# Altium schematic symbol library Schlib1.SchLib: 8 symbols
Pins are listed as number, name and electrical type; pins without a type are passive.

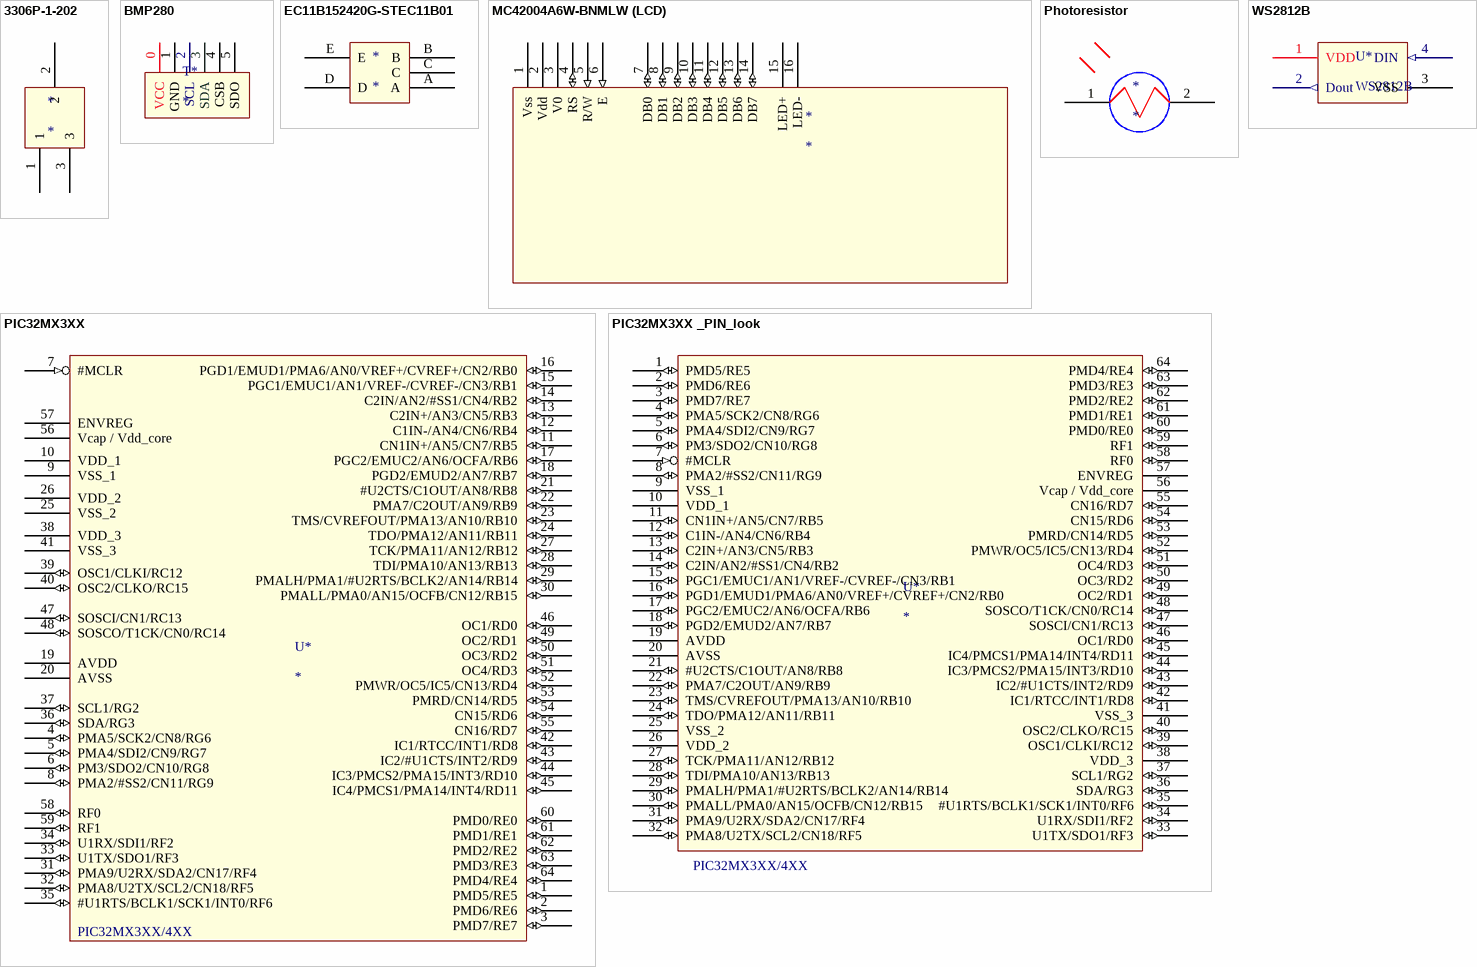
[diagram p0: symbols 3306P-1-202 to WS2812B]

## 3306P-1-202
designator *
footprint 3306P-1-202
pins: 1, 2, 3

## BMP280
designator T*
I2C thermometer
pins: 0 VCC (power) "5V", 1 GND (power) "masse", 2 SCL (power) "Clock", 3 SDA (power) "Data", 4 CSB (power) "Select Mode", 5 SDO (power) "Adress bit 0"

## EC11B152420G-STEC11B01
designator *
footprint EC11B152420G-STEC11B01
pins: A, B, C, D, E

## MC42004A6W-BNMLW (LCD)
designator *
footprint PCBComponent_1
pins: 1 Vss (power) "GND", 2 Vdd (power) "5v", 3 V0 "Contrast Adjust", 4 RS (io) "Register Select Signal", 5 R/W (in) "GND", 6 E (in) "Enable Signal", 7 DB0 (io) "Data bus pin 0", 8 DB1 (io) "Data bus pin 1", 9 DB2 (io) "Data bus pin 2", 10 DB3 (io) "Data bus pin 3", 11 DB4 (io) "Data bus pin 4", 12 DB5 (io) "Data bus pin 5", 13 DB6 (io) "Data bus pin 6", 14 DB7 (io) "Data bus pin 7", 15 LED+ (power) "5v", 16 LED- (power) "GND"

## Photoresistor
designator *
pins: 1, 2

## PIC32MX3XX
designator U*
pins: 1 PMD5/RE5 (io), 2 PMD6/RE6 (io), 3 PMD7/RE7 (io), 4 PMA5/SCK2/CN8/RG6 (io), 5 PMA4/SDI2/CN9/RG7 (io), 6 PM3/SDO2/CN10/RG8 (io), 7 #MCLR (in) "Reset", 8 PMA2/#SS2/CN11/RG9 (io), 9 VSS_1 (power), 10 VDD_1 (power), 11 CN1IN+/AN5/CN7/RB5 (io), 12 C1IN-/AN4/CN6/RB4 (io), 13 C2IN+/AN3/CN5/RB3 (io), 14 C2IN/AN2/#SS1/CN4/RB2 (io), 15 PGC1/EMUC1/AN1/VREF-/CVREF-/CN3/RB1 (io), 16 PGD1/EMUD1/PMA6/AN0/VREF+/CVREF+/CN2/RB0 (io), 17 PGC2/EMUC2/AN6/OCFA/RB6 (io), 18 PGD2/EMUD2/AN7/RB7 (io), 19 AVDD (power) "Analog 3.3v", 20 AVSS (power) "Analog GND", 21 #U2CTS/C1OUT/AN8/RB8 (io), 22 PMA7/C2OUT/AN9/RB9 (io), 23 TMS/CVREFOUT/PMA13/AN10/RB10 (io), 24 TDO/PMA12/AN11/RB11 (io), 25 VSS_2 (power), 26 VDD_2 (power), 27 TCK/PMA11/AN12/RB12 (io), 28 TDI/PMA10/AN13/RB13 (io), 29 PMALH/PMA1/#U2RTS/BCLK2/AN14/RB14 (io), 30 PMALL/PMA0/AN15/OCFB/CN12/RB15 (io), 31 PMA9/U2RX/SDA2/CN17/RF4 (io), 32 PMA8/U2TX/SCL2/CN18/RF5 (io), 33 U1TX/SDO1/RF3 (io), 34 U1RX/SDI1/RF2 (io), 35 #U1RTS/BCLK1/SCK1/INT0/RF6 (io), 36 SDA/RG3 (io), 37 SCL1/RG2 (io), 38 VDD_3, 39 OSC1/CLKI/RC12 (io) "Q : 8MHz + C : 22pF", 40 OSC2/CLKO/RC15 (io) "see pin 39", 41 VSS_3, 42 IC1/RTCC/INT1/RD8 (io), 43 IC2/#U1CTS/INT2/RD9 (io), 44 IC3/PMCS2/PMA15/INT3/RD10 (io), 45 IC4/PMCS1/PMA14/INT4/RD11 (io), 46 OC1/RD0 (io), 47 SOSCI/CN1/RC13 (io) "Q : 32768/12pF C : 27pF", 48 SOSCO/T1CK/CN0/RC14 (io) "see pin 47", 49 OC2/RD1 (io), 50 OC3/RD2 (io), 51 OC4/RD3 (io), 52 PMWR/OC5/IC5/CN13/RD4 (io), 53 PMRD/CN14/RD5 (io), 54 CN15/RD6 (io), 55 CN16/RD7 (io), 56 Vcap / Vdd_core (power) "capa see pin 57", 57 ENVREG (power) "GND = external voltage regulation, add 10uF capa with Vcap/Vcore trace length max 6mm", 58 RF0 (io), 59 RF1 (io), 60 PMD0/RE0 (io), 61 PMD1/RE1 (io), 62 PMD2/RE2 (io), 63 PMD3/RE3 (io), 64 PMD4/RE4 (io)
text: PIC32MX3XX/4XX

## PIC32MX3XX _PIN_look
designator U*
pins: 1 PMD5/RE5 (io), 2 PMD6/RE6 (io), 3 PMD7/RE7 (io), 4 PMA5/SCK2/CN8/RG6 (io), 5 PMA4/SDI2/CN9/RG7 (io), 6 PM3/SDO2/CN10/RG8 (io), 7 #MCLR (in) "Reset", 8 PMA2/#SS2/CN11/RG9 (io), 9 VSS_1 (power), 10 VDD_1 (power), 11 CN1IN+/AN5/CN7/RB5 (io), 12 C1IN-/AN4/CN6/RB4 (io), 13 C2IN+/AN3/CN5/RB3 (io), 14 C2IN/AN2/#SS1/CN4/RB2 (io), 15 PGC1/EMUC1/AN1/VREF-/CVREF-/CN3/RB1 (io), 16 PGD1/EMUD1/PMA6/AN0/VREF+/CVREF+/CN2/RB0 (io), 17 PGC2/EMUC2/AN6/OCFA/RB6 (io), 18 PGD2/EMUD2/AN7/RB7 (io), 19 AVDD (power) "Analog 3.3v", 20 AVSS (power) "Analog GND", 21 #U2CTS/C1OUT/AN8/RB8 (io), 22 PMA7/C2OUT/AN9/RB9 (io), 23 TMS/CVREFOUT/PMA13/AN10/RB10 (io), 24 TDO/PMA12/AN11/RB11 (io), 25 VSS_2 (power), 26 VDD_2 (power), 27 TCK/PMA11/AN12/RB12 (io), 28 TDI/PMA10/AN13/RB13 (io), 29 PMALH/PMA1/#U2RTS/BCLK2/AN14/RB14 (io), 30 PMALL/PMA0/AN15/OCFB/CN12/RB15 (io), 31 PMA9/U2RX/SDA2/CN17/RF4 (io), 32 PMA8/U2TX/SCL2/CN18/RF5 (io), 33 U1TX/SDO1/RF3 (io), 34 U1RX/SDI1/RF2 (io), 35 #U1RTS/BCLK1/SCK1/INT0/RF6 (io), 36 SDA/RG3 (io), 37 SCL1/RG2 (io), 38 VDD_3, 39 OSC1/CLKI/RC12 (io) "Q : 8MHz + C : 22pF", 40 OSC2/CLKO/RC15 (io) "see pin 39", 41 VSS_3, 42 IC1/RTCC/INT1/RD8 (io), 43 IC2/#U1CTS/INT2/RD9 (io), 44 IC3/PMCS2/PMA15/INT3/RD10 (io), 45 IC4/PMCS1/PMA14/INT4/RD11 (io), 46 OC1/RD0 (io), 47 SOSCI/CN1/RC13 (io) "Q : 32768/12pF C : 27pF", 48 SOSCO/T1CK/CN0/RC14 (io) "see pin 47", 49 OC2/RD1 (io), 50 OC3/RD2 (io), 51 OC4/RD3 (io), 52 PMWR/OC5/IC5/CN13/RD4 (io), 53 PMRD/CN14/RD5 (io), 54 CN15/RD6 (io), 55 CN16/RD7 (io), 56 Vcap / Vdd_core (power) "capa see pin 57", 57 ENVREG (power) "GND = external voltage regulation, add 10uF capa with Vcap/Vcore trace length max 6mm", 58 RF0 (io), 59 RF1 (io), 60 PMD0/RE0 (io), 61 PMD1/RE1 (io), 62 PMD2/RE2 (io), 63 PMD3/RE3 (io), 64 PMD4/RE4 (io)
text: PIC32MX3XX/4XX

## WS2812B
designator U*
footprint WS2812b
pins: 1 VDD (power), 2 Dout (out) "Signal OUTPUT", 3 VSS (power), 4 DIN (in)